# EAGLE library part CARTRIDGE (library cpcplus-cartridge)
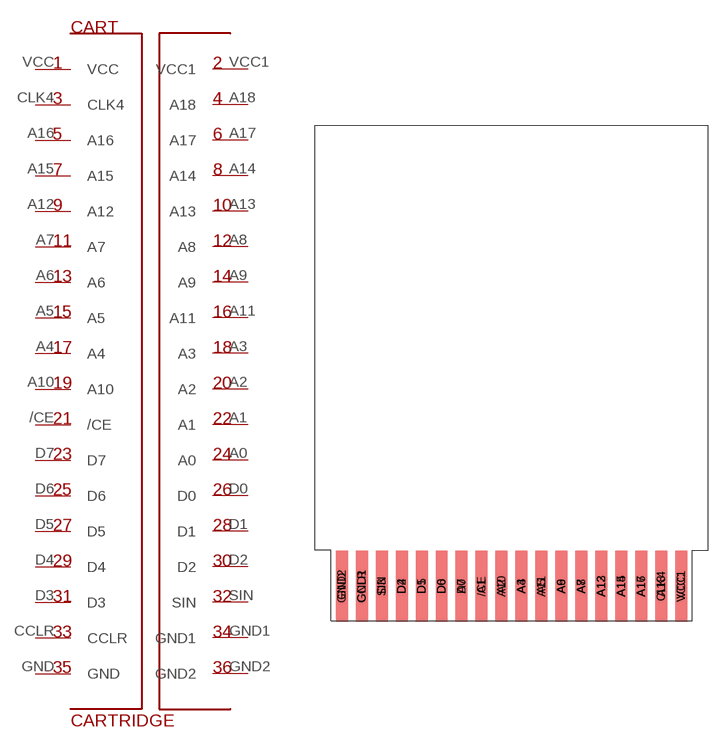
[diagram p0: symbol with the pads of CARTRIDGE; footprint CARTRIDGE]

Designator prefix CART

## CARTRIDGEN  [CARTRIDGE]
/CE  /CE  out
A0  A0  out
A1  A1  out
A2  A2  out
A3  A3  out
A4  A4  out
A5  A5  out
A6  A6  out
A7  A7  out
A8  A8  out
A9  A9  out
A10  A10  out
A11  A11  out
A12  A12  out
A13  A13  out
A14  A14  out
A15  A15  out
A16  A16  out
A17  A17  out
A18  A18  out
CCLR  CCLR  out
CLK4  CLK4  out
D0  D0
D1  D1
D2  D2
D3  D3
D4  D4
D5  D5
D6  D6
D7  D7
GND  GND
GND1  GND1
GND2  GND2
SIN  SIN  in
VCC  VCC  pwr
VCC1  VCC1

## Footprint CARTRIDGE (pad centres in mm)
smd 1.524 x 8.992: /CE -3.81,-7.62; A4 1.27,-7.62; A5 3.81,-7.62; A6 6.35,-7.62; A7 8.89,-7.62; A10 -1.27,-7.62; A12 11.43,-7.62; A15 13.97,-7.62; A16 16.51,-7.62; CCLR -19.05,-7.62; CLK4 19.05,-7.62; D3 -16.51,-7.62; D4 -13.97,-7.62; D5 -11.43,-7.62; D6 -8.89,-7.62; D7 -6.35,-7.62; GND -21.59,-7.62; VCC 21.59,-7.62
smd 1.524 x 8.992 bottom: A0 -6.35,-7.62; A1 -3.81,-7.62; A2 -1.27,-7.62; A3 1.27,-7.62; A8 8.89,-7.62; A9 6.35,-7.62; A11 3.81,-7.62; A13 11.43,-7.62; A14 13.97,-7.62; A17 16.51,-7.62; A18 19.05,-7.62; D0 -8.89,-7.62; D1 -11.43,-7.62; D2 -13.97,-7.62; GND1 -19.05,-7.62; GND2 -21.59,-7.62; SIN -16.51,-7.62; VCC1 21.59,-7.62